# Altium footprint library ebf_mp157 core board s1_20210223_PCB封装库_AD格式.PcbLib: 17 footprints (part 1 of 2)
Each footprint in its own frame and in the unit in brackets; x right, y up, seen from the top. Pads: shape width x height; smd on the part's side, far side on the other; paste and mask are expansions set on the pad; w line width, h text height; cw(c..) or ccw(c..) is an arc to the next point about the centre after c.
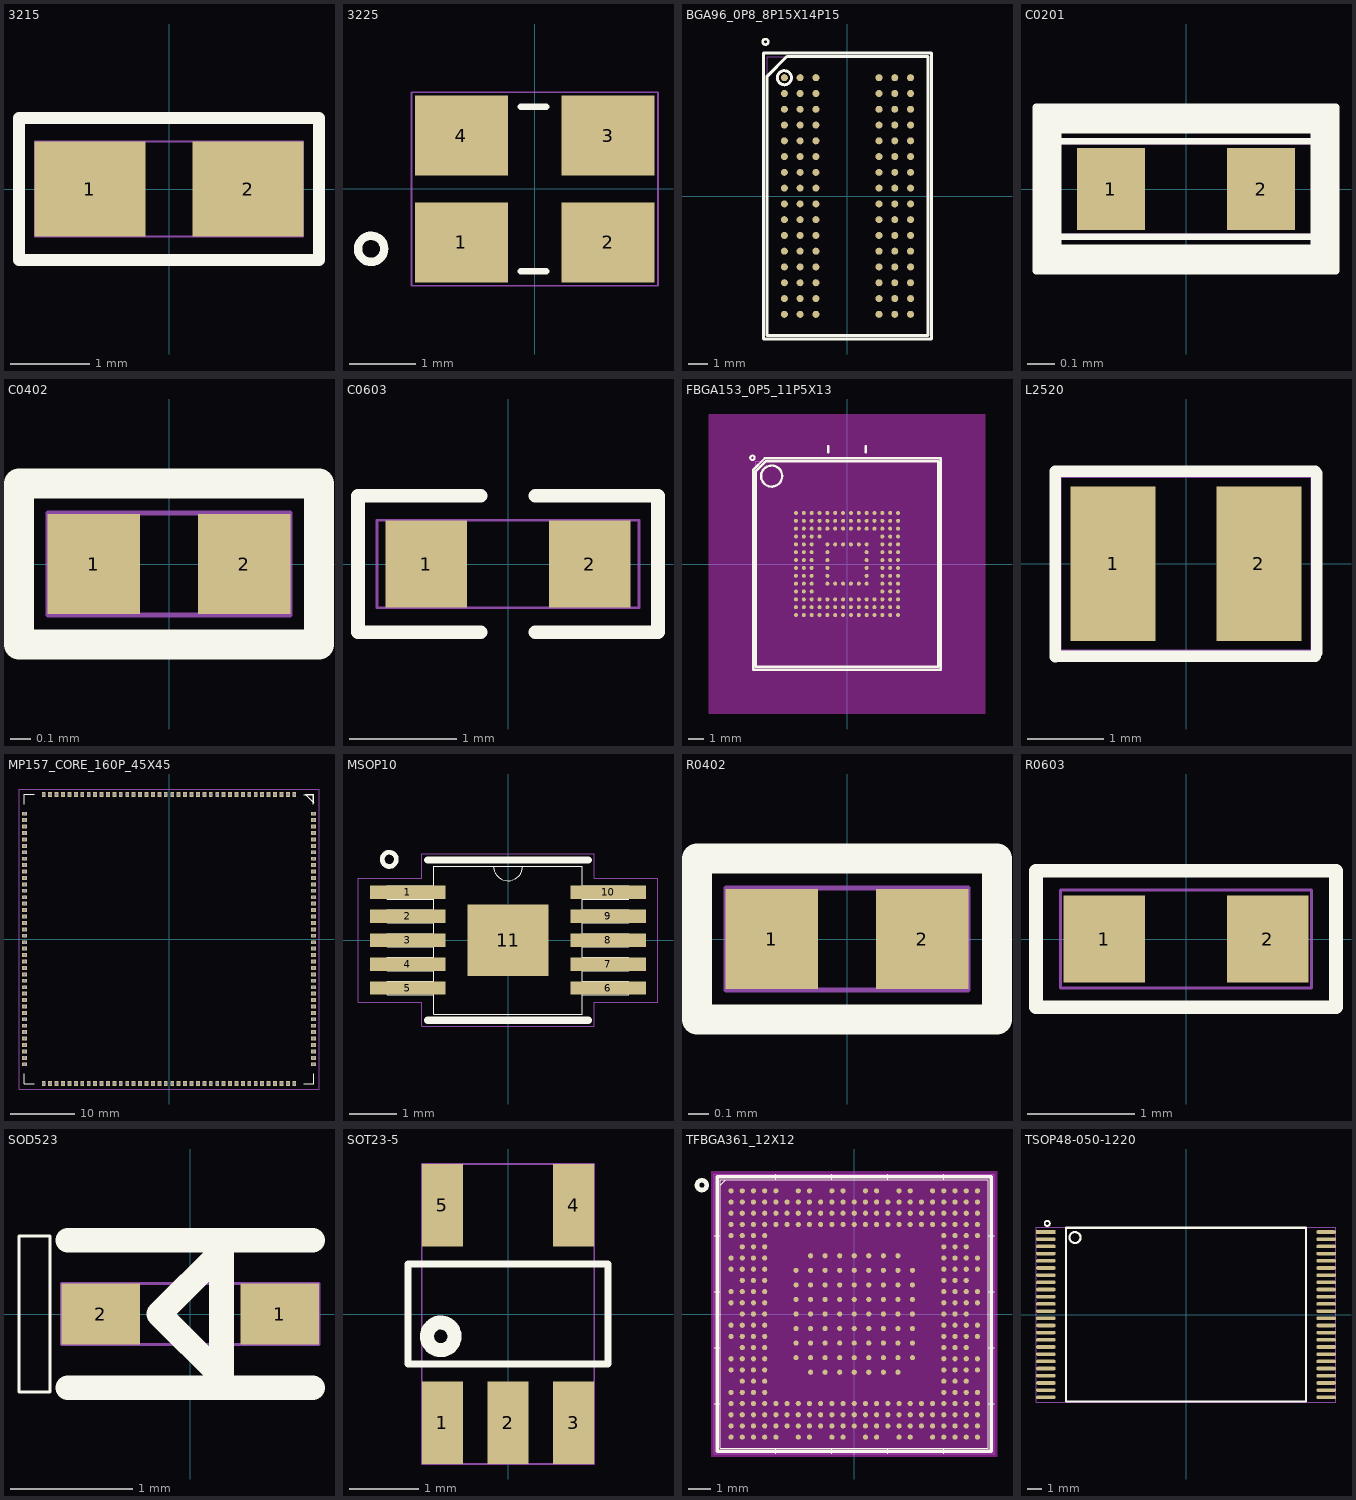
[diagram p0: the footprints below, top view; thin cyan lines are the x and y axes]

## 3215 [mil]
pads (2):
  rect 55.12x47.24 smd mask+1.97: 1(-39.4,0) 2(39.4,0)
Top Overlay:
  lines w5.9: -74.8,-35.4 -74.8,35.4 74.8,35.4 74.8,-35.4 -74.8,-35.4
Top Assembly:
  text "Y2" at -38.92,-25 h50
Mechanical 14:
  lines w1: -66.9,-23.6 -66.9,23.6 66.9,23.6 66.9,-23.6 -66.9,-23.6

## 3225 [mil]
pads (4):
  rect 55.12x47.24 smd mask+1.97: 1(-43.3,-31.5) 2(43.31,-31.5) 3(43.31,31.49) 4(-43.3,31.49)
Top Overlay:
  circle w5: c-96.68,-35.37 r7.74
  lines w3.94: -8.3,-48.51 6.7,-48.51 ; -8.3,48.51 6.7,48.51
Top Assembly:
  text "Y1" at 28.21,25 h50
Mechanical 14:
  lines w1: -72.83,-57.09 72.84,-57.09 72.84,57.08 -72.83,57.08 -72.83,-57.09

## BGA96_0P8_8P15X14P15 [mil]
pads (96):
  round 14 smd mask+2: A1(-125.98,236.22) A2(-94.49,236.22) A3(-62.99,236.22) A7(62.99,236.22) A8(94.49,236.22) A9(125.98,236.22) B1(-125.98,204.72) B2(-94.49,204.72) B3(-62.99,204.72) B7(62.99,204.72) B8(94.49,204.72) B9(125.98,204.72) C1(-125.98,173.23) C2(-94.49,173.23) C3(-62.99,173.23) C7(62.99,173.23) C8(94.49,173.23) C9(125.98,173.23) D1(-125.98,141.73) D2(-94.49,141.73) D3(-62.99,141.73) D7(62.99,141.73) D8(94.49,141.73) D9(125.98,141.73) E1(-125.98,110.24) E2(-94.49,110.24) E3(-62.99,110.24) E7(62.99,110.24) E8(94.49,110.24) E9(125.98,110.24) F1(-125.98,78.74) F2(-94.49,78.74) F3(-62.99,78.74) F7(62.99,78.74) F8(94.49,78.74) F9(125.98,78.74) G1(-125.98,47.24) G2(-94.49,47.24) G3(-62.99,47.24) G7(62.99,47.24) G8(94.49,47.24) G9(125.98,47.24) H1(-125.98,15.75) H2(-94.49,15.75) H3(-62.99,15.75) H7(62.99,15.75) H8(94.49,15.75) H9(125.98,15.75) J1(-125.98,-15.75) J2(-94.49,-15.75) J3(-62.99,-15.75) J7(62.99,-15.75) J8(94.49,-15.75) J9(125.98,-15.75) K1(-125.98,-47.24) K2(-94.49,-47.24) K3(-62.99,-47.24) K7(62.99,-47.24) K8(94.49,-47.24) K9(125.98,-47.24) L1(-125.98,-78.74) L2(-94.49,-78.74) L3(-62.99,-78.74) L7(62.99,-78.74) L8(94.49,-78.74) L9(125.98,-78.74) M1(-125.98,-110.24) M2(-94.49,-110.24) M3(-62.99,-110.24) M7(62.99,-110.24) M8(94.49,-110.24) M9(125.98,-110.24) N1(-125.98,-141.73) N2(-94.49,-141.73) N3(-62.99,-141.73) N7(62.99,-141.73) N8(94.49,-141.73) N9(125.98,-141.73) P1(-125.98,-173.23) P2(-94.49,-173.23) P3(-62.99,-173.23) P7(62.99,-173.23) P8(94.49,-173.23) P9(125.98,-173.23) R1(-125.98,-204.72) R2(-94.49,-204.72) R3(-62.99,-204.72) R7(62.99,-204.72) R8(94.49,-204.72) R9(125.98,-204.72) T1(-125.98,-236.22) T2(-94.49,-236.22) T3(-62.99,-236.22) T7(62.99,-236.22) T8(94.49,-236.22) T9(125.98,-236.22)
Top Overlay:
  circle w5: c-163.68,307.97 r5.57
  circle w6: c-125.98,236.22 r14.08
  lines w6: -167.43,-285.55 -167.43,246.18 -167.43,285.54 -128.07,285.54 167.43,285.54 167.43,-285.54 -167.43,-285.54 ; -160.43,-278.54 160.43,-278.54 160.43,278.54 -121.06,278.54 -160.43,239.17 -160.43,-278.54
Top Assembly:
  text "U9" at 39.04,25 h50
Mechanical 14:
  lines w1: -160.43,-278.54 160.43,-278.54 160.43,278.54 -160.43,278.54 -160.43,-278.54

## C0201 [mm]
pads (2):
  rect 0.25x0.3 smd mask+0.05: 1(-0.275,0) 2(0.275,0)
Top Overlay:
  lines w0.025: -0.55,-0.3 -0.55,0.3 0.55,0.3 0.55,-0.3 -0.55,-0.3 ; -0.475,-0.175 0.475,-0.175 0.475,0.175 -0.475,0.175 -0.475,-0.175
  lines w0.102: -0.508,-0.254 -0.508,0.254 0.508,0.254 0.508,-0.254 -0.508,-0.254
Top Assembly:
  text "C9" at 1.025,0.635 h1.27
Mechanical 14:
  lines w0.025: -0.475,-0.175 0.475,-0.175 0.475,0.175 -0.475,0.175 -0.475,-0.175

## C0402 [mm]
pads (2):
  rect 0.46x0.5 smd mask+0.05: 1(-0.376,0) 2(0.376,0)
Top Overlay:
  lines w0.15: -0.749,-0.401 0.749,-0.401 0.749,0.401 -0.749,0.401 -0.749,-0.401
Top Assembly:
  text "C99" at 1.59,0.635 h1.27
Mechanical 14:
  lines w0.025: -0.604,-0.254 0.604,-0.254 0.604,0.254 -0.604,0.254 -0.604,-0.254

## C0603 [mil]
pads (2):
  rect 30x32 smd mask+2.5: 1(-30,0) 2(30,0)
Top Overlay:
  lines w5: -10,-25 -55,-25 -55,25 -10,25 ; 10,-25 55,-25 55,25 10,25
Top Assembly:
  text "C95" at -63.8,-25 h50
Mechanical 14:
  lines w1: -48,-16 -48,16 48,16 48,-16 -48,-16

## FBGA153_0P5_11P5X13 [mil]
pads (153):
  round 10 smd mask+1: A1(-127.95,127.95) A2(-108.27,127.95) A3(-88.58,127.95) A4(-68.9,127.95) A5(-49.21,127.95) A6(-29.53,127.95) A7(-9.84,127.95) A8(9.84,127.95) A9(29.53,127.95) A10(49.21,127.95) A11(68.9,127.95) A12(88.58,127.95) A13(108.27,127.95) A14(127.95,127.95) B1(-127.95,108.27) B2(-108.27,108.27) B3(-88.58,108.27) B4(-68.9,108.27) B5(-49.21,108.27) B6(-29.53,108.27) B7(-9.84,108.27) B8(9.84,108.27) B9(29.53,108.27) B10(49.21,108.27) B11(68.9,108.27) B12(88.58,108.27) B13(108.27,108.27) B14(127.95,108.27) C1(-127.95,88.58) C2(-108.27,88.58) C3(-88.58,88.58) C4(-68.9,88.58) C5(-49.21,88.58) C6(-29.53,88.58) C7(-9.84,88.58) C8(9.84,88.58) C9(29.53,88.58) C10(49.21,88.58) C11(68.9,88.58) C12(88.58,88.58) C13(108.27,88.58) C14(127.95,88.58) D1(-127.95,68.9) D2(-108.27,68.9) D3(-88.58,68.9) D4(-68.9,68.9) D12(88.58,68.9) D13(108.27,68.9) D14(127.95,68.9) E1(-127.95,49.21) E2(-108.27,49.21) E3(-88.58,49.21) E5(-49.21,49.21) E6(-29.53,49.21) E7(-9.84,49.21) E8(9.84,49.21) E9(29.53,49.21) E10(49.21,49.21) E12(88.58,49.21) E13(108.27,49.21) E14(127.95,49.21) F1(-127.95,29.53) F2(-108.27,29.53) F3(-88.58,29.53) F5(-49.21,29.53) F10(49.21,29.53) F12(88.58,29.53) F13(108.27,29.53) F14(127.95,29.53) G1(-127.95,9.84) G2(-108.27,9.84) G3(-88.58,9.84) G5(-49.21,9.84) G10(49.21,9.84) G12(88.58,9.84) G13(108.27,9.84) G14(127.95,9.84) H1(-127.95,-9.84) H2(-108.27,-9.84) H3(-88.58,-9.84) H5(-49.21,-9.84) H10(49.21,-9.84) H12(88.58,-9.84) H13(108.27,-9.84) H14(127.95,-9.84) J1(-127.95,-29.53) J2(-108.27,-29.53) J3(-88.58,-29.53) J5(-49.21,-29.53) J10(49.21,-29.53) J12(88.58,-29.53) J13(108.27,-29.53) J14(127.95,-29.53) K1(-127.95,-49.21) K2(-108.27,-49.21) K3(-88.58,-49.21) K5(-49.21,-49.21) K6(-29.53,-49.21) K7(-9.84,-49.21) K8(9.84,-49.21) K9(29.53,-49.21) K10(49.21,-49.21) K12(88.58,-49.21) K13(108.27,-49.21) K14(127.95,-49.21) L1(-127.95,-68.9) L2(-108.27,-68.9) L3(-88.58,-68.9) L12(88.58,-68.9) L13(108.27,-68.9) L14(127.95,-68.9) M1(-127.95,-88.58) M2(-108.27,-88.58) M3(-88.58,-88.58) M4(-68.9,-88.58) M5(-49.21,-88.58) M6(-29.53,-88.58) M7(-9.84,-88.58) M8(9.84,-88.58) M9(29.53,-88.58) M10(49.21,-88.58) M11(68.9,-88.58) M12(88.58,-88.58) M13(108.27,-88.58) M14(127.95,-88.58) N1(-127.95,-108.27) N2(-108.27,-108.27) N3(-88.58,-108.27) N4(-68.9,-108.27) N5(-49.21,-108.27) N6(-29.53,-108.27) N7(-9.84,-108.27) N8(9.84,-108.27) N9(29.53,-108.27) N10(49.21,-108.27) N11(68.9,-108.27) N12(88.58,-108.27) N13(108.27,-108.27) N14(127.95,-108.27) P1(-127.95,-127.95) P2(-108.27,-127.95) P3(-88.58,-127.95) P4(-68.9,-127.95) P5(-49.21,-127.95) P6(-29.53,-127.95) P7(-9.84,-127.95) P8(9.84,-127.95) P9(29.53,-127.95) P10(49.21,-127.95) P11(68.9,-127.95) P12(88.58,-127.95) P13(108.27,-127.95) P14(127.95,-127.95)
Top Layer keep-out:
  region: -346.46,-375.98 -346.46,375.98 346.46,375.98 346.46,-375.98
Top Overlay:
  circle w5: c-237,266 r5.57
  circle w6: c-188.98,220.47 r26.41
  lines w6: -235.35,-264.87 -235.35,235.77 -206.24,264.87 235.35,264.87 235.35,-264.87 -235.35,-264.87 ; -228.35,-257.87 -228.35,232.87 -203.35,257.87 228.35,257.87 228.35,-257.87 -228.35,-257.87 ; -47.24,279.53 -47.24,295.28 -47.24,279.53 ; 47.24,279.53 47.24,295.28 47.24,279.53
Bottom Overlay:
  lines w6: -47.24,279.53 -47.24,295.28 ; 47.24,279.53 47.24,295.28
Top Assembly:
  text "U11" at 47.85,25 h50
Mechanical 14:
  lines w1: -228.35,-257.87 228.35,-257.87 228.35,257.87 -228.35,257.87 -228.35,-257.87

## L2520 [mil]
pads (2):
  rect 44x80 smd mask+2: 1(-37.75,0) 2(37.75,0)
Top Overlay:
  lines w6: -67.68,47.92 67.09,47.92 ; -67.67,-48.15 -67.67,48.03 ; -65.71,-47.92 67.09,-47.92 ; 67.67,-46.06 67.67,46.97
Top Assembly:
  text "L2" at 33.68,25 h50
Mechanical 14:
  lines w1: -65,-45 -65,45 65,45 65,-45 -65,-45

## MP157_CORE_160P_45X45 [mil]
pads (160):
  rect 23.62x31.5 / inner rect 23.62x31.5 / far side rect 23.62x78.74 hole 19.69 mask+1.97: 1(767.72,885.83) 2(728.35,885.83) 3(688.98,885.83) 4(649.61,885.83) 5(610.24,885.83) 6(570.87,885.83) 7(531.5,885.83) 8(492.13,885.83) 9(452.76,885.83) 10(413.39,885.83) 11(374.02,885.83) 12(334.65,885.83) 13(295.28,885.83) 14(255.91,885.83) 15(216.53,885.83) 16(177.16,885.83) 17(137.79,885.83) 18(98.42,885.83) 19(59.05,885.83) 20(19.68,885.83) 21(-19.68,885.83) 22(-59.05,885.83) 23(-98.42,885.83) 24(-137.79,885.83) 25(-177.16,885.83) 26(-216.53,885.83) 27(-255.91,885.83) 28(-295.28,885.83) 29(-334.65,885.83) 30(-374.02,885.83) 31(-413.39,885.83) 32(-452.76,885.83) 33(-492.13,885.83) 34(-531.5,885.83) 35(-570.87,885.83) 36(-610.24,885.83) 37(-649.61,885.83) 38(-688.98,885.83) 39(-728.35,885.83) 40(-767.72,885.83) 81(-767.72,-885.83) 82(-728.35,-885.83) 83(-688.98,-885.83) 84(-649.61,-885.83) 85(-610.24,-885.83) 86(-570.87,-885.83) 87(-531.5,-885.83) 88(-492.13,-885.83) 89(-452.76,-885.83) 90(-413.39,-885.83) 91(-374.02,-885.83) 92(-334.65,-885.83) 93(-295.28,-885.83) 94(-255.91,-885.83) 95(-216.53,-885.83) 96(-177.16,-885.83) 97(-137.79,-885.83) 98(-98.42,-885.83) 99(-59.05,-885.83) 100(-19.68,-885.83) 101(19.68,-885.83) 102(59.05,-885.83) 103(98.42,-885.83) 104(137.79,-885.83) 105(177.16,-885.83) 106(216.53,-885.83) 107(255.91,-885.83) 108(295.28,-885.83) 109(334.65,-885.83) 110(374.02,-885.83) 111(413.39,-885.83) 112(452.76,-885.83) 113(492.13,-885.83) 114(531.5,-885.83) 115(570.87,-885.83) 116(610.24,-885.83) 117(649.61,-885.83) 118(688.98,-885.83) 119(728.35,-885.83) 120(767.72,-885.83)
  rect 31.5x23.62 / inner rect 31.5x23.62 / far side rect 78.74x23.62 hole 19.69 mask+1.97: 41(-885.83,767.72) 42(-885.83,728.35) 43(-885.83,688.98) 44(-885.83,649.61) 45(-885.83,610.24) 46(-885.83,570.87) 47(-885.83,531.5) 48(-885.83,492.13) 49(-885.83,452.76) 50(-885.83,413.39) 51(-885.83,374.02) 52(-885.83,334.65) 53(-885.83,295.28) 54(-885.83,255.91) 55(-885.83,216.53) 56(-885.83,177.16) 57(-885.83,137.79) 58(-885.83,98.42) 59(-885.83,59.05) 60(-885.83,19.68) 61(-885.83,-19.68) 62(-885.83,-59.05) 63(-885.83,-98.42) 64(-885.83,-137.79) 65(-885.83,-177.16) 66(-885.83,-216.53) 67(-885.83,-255.91) 68(-885.83,-295.28) 69(-885.83,-334.65) 70(-885.83,-374.02) 71(-885.83,-413.39) 72(-885.83,-452.76) 73(-885.83,-492.13) 74(-885.83,-531.5) 75(-885.83,-570.87) 76(-885.83,-610.24) 77(-885.83,-649.61) 78(-885.83,-688.98) 79(-885.83,-728.35) 80(-885.83,-767.72) 121(885.83,-767.72) 122(885.83,-728.35) 123(885.83,-688.98) 124(885.83,-649.61) 125(885.83,-610.24) 126(885.83,-570.87) 127(885.83,-531.5) 128(885.83,-492.13) 129(885.83,-452.76) 130(885.83,-413.39) 131(885.83,-374.02) 132(885.83,-334.65) 133(885.83,-295.28) 134(885.83,-255.91) 135(885.83,-216.53) 136(885.83,-177.16) 137(885.83,-137.79) 138(885.83,-98.42) 139(885.83,-59.05) 140(885.83,-19.68) 141(885.83,19.68) 142(885.83,59.05) 143(885.83,98.42) 144(885.83,137.79) 145(885.83,177.16) 146(885.83,216.53) 147(885.83,255.91) 148(885.83,295.28) 149(885.83,334.65) 150(885.83,374.02) 151(885.83,413.39) 152(885.83,452.76) 153(885.83,492.13) 154(885.83,531.5) 155(885.83,570.87) 156(885.83,610.24) 157(885.83,649.61) 158(885.83,688.98) 159(885.83,728.35) 160(885.83,767.72)
Top Overlay:
  lines w1: 835.83,885.83 885.83,835.83 885.83,885.83 835.83,885.83
  lines w6: -885.83,-885.83 -885.83,-826.57 -885.83,-885.83 ; -885.83,-885.83 -826.77,-885.63 -885.83,-885.83 ; -885.83,885.83 -826.77,885.63 -885.83,885.83 ; -885.83,885.83 -885.83,826.57 -885.83,885.83 ; 883.54,885.28 824.49,885.08 883.54,885.28 ; 883.54,885.28 883.54,826.02 883.54,885.28 ; 885.83,-885.83 885.83,-826.57 885.83,-885.83 ; 885.83,-885.83 826.77,-885.63 885.83,-885.83
Top Assembly:
  text "U7" at -40.23,-25 h50
Mechanical 14:
  lines w1: -919.3,-919.3 919.3,-919.3 919.3,919.3 -919.3,919.3 -919.3,-919.3

## MSOP10 [mil]
pads (11):
  rect 62x11 smd: 1(-82.5,39.37) 2(-82.5,19.68) 3(-82.5,0) 4(-82.5,-19.68) 5(-82.5,-39.37) 6(82.5,-39.37) 7(82.5,-19.68) 8(82.5,0) 9(82.5,19.68) 10(82.5,39.37)
  rect 66.93x59.05 smd mask+1.97: 11(0,0)
Top Overlay:
  circle w3.94: c-97.76,66.59 r5.83
  lines w1: -12,61 ccw(c0,61) 12,60.79 ; -99.5,-44.9 -61,-44.9 -61,-33.9 -99.5,-33.9 -99.5,-44.9 ; -99.5,-25.2 -61,-25.2 -61,-14.2 -99.5,-14.2 -99.5,-25.2 ; -99.5,-5.5 -61,-5.5 -61,5.5 -99.5,5.5 -99.5,-5.5 ; -99.5,14.2 -61,14.2 -61,25.2 -99.5,25.2 -99.5,14.2 ; -99.5,33.9 -61,33.9 -61,44.9 -99.5,44.9 -99.5,33.9 ; -61,-61 -61,61 61,61 61,-61 -61,-61 ; 61,-44.9 99.5,-44.9 99.5,-33.9 61,-33.9 61,-44.9 ; 61,-25.2 99.5,-25.2 99.5,-14.2 61,-14.2 61,-25.2 ; 61,-5.5 99.5,-5.5 99.5,5.5 61,5.5 61,-5.5 ; 61,14.2 99.5,14.2 99.5,25.2 61,25.2 61,14.2 ; 61,33.9 99.5,33.9 99.5,44.9 61,44.9 61,33.9
  lines w6: -66,-66 66,-66 ; -66,66 66,66
Top Assembly:
  text "U10" at -58.56,-25 h50
Mechanical 14:
  lines w1: -123.5,-51.2 -71,-51.2 -71,-71 71,-71 71,-51.2 123.5,-51.2 123.5,51.2 71,51.2 71,71 -71,71 -71,51.2 -123.5,51.2 -123.5,-51.2

## R0402 [mm]
pads (2):
  rect 0.46x0.5 smd mask+0.05: 1(-0.376,0) 2(0.376,0)
Top Overlay:
  lines w0.15: -0.749,-0.401 0.749,-0.401 0.749,0.401 -0.749,0.401 -0.749,-0.401
Top Assembly:
  text "R9" at 0.958,0.635 h1.27
Mechanical 14:
  lines w0.025: -0.604,-0.254 0.604,-0.254 0.604,0.254 -0.604,0.254 -0.604,-0.254

## R0603 [mil]
pads (2):
  rect 30x32 smd mask+2.5: 1(-30,0) 2(30,0)
Top Overlay:
  lines w5: -55,-25 -55,25 55,25 55,-25 -55,-25
Top Assembly:
  text "R3" at 38.92,25 h50
Mechanical 14:
  lines w1: -46,-18 -46,18 46,18 46,-18 -46,-18

## SOD523 [mm]
pads (2):
  rect 0.64x0.5 smd mask+0.05: 1(0.73,0) 2(-0.73,0)
Top Overlay:
  lines w0.025: -1.397,-0.635 -1.143,-0.635 -1.143,0.635 -1.397,0.635 -1.397,-0.635
  lines w0.2: -1,-0.6 1,-0.6 ; -1,0.6 1,0.6
  lines w0.203: -0.254,0 0.254,-0.508 0.254,0.508 -0.254,0
Top Assembly:
  text "D3" at -0.989,-0.635 h1.27
Mechanical 14:
  lines w0.025: -1.05,-0.25 1.05,-0.25 1.05,0.25 -1.05,0.25 -1.05,-0.25

## SOT23-5 [mm]
pads (5):
  rect 0.6x1.2 smd mask+0.05: 1(-0.95,-1.575) 2(0,-1.575) 3(0.95,-1.575) 4(0.95,1.575) 5(-0.95,1.575)
Top Overlay:
  circle w0.203: c-0.975,-0.325 r0.2
  lines w0.102: -1.45,-0.725 1.45,-0.725 1.45,0.475 1.45,0.725 -1.45,0.725 -1.45,0.475 -1.45,-0.725
Top Assembly:
  text "U6" at 0.992,0.635 h1.27
Mechanical 14:
  lines w0.025: -1.25,-2.175 1.25,-2.175 1.25,2.175 -1.25,2.175 -1.25,-2.175

## TFBGA361_12X12 [mm]
pads (361):
  round 0.23 smd mask+0.035: 1A2(-1.95,2.6) 1A3(-1.3,2.6) 1A4(-0.65,2.6) 1A5(0,2.6) 1A6(0.65,2.6) 1A7(1.3,2.6) 1A8(1.95,2.6) 1B1(-2.6,1.95) 1B2(-1.95,1.95) 1B3(-1.3,1.95) 1B4(-0.65,1.95) 1B5(0,1.95) 1B6(0.65,1.95) 1B7(1.3,1.95) 1B8(1.95,1.95) 1B9(2.6,1.95) 1C1(-2.6,1.3) 1C2(-1.95,1.3) 1C3(-1.3,1.3) 1C4(-0.65,1.3) 1C5(0,1.3) 1C6(0.65,1.3) 1C7(1.3,1.3) 1C8(1.95,1.3) 1C9(2.6,1.3) 1D1(-2.6,0.65) 1D2(-1.95,0.65) 1D3(-1.3,0.65) 1D4(-0.65,0.65) 1D5(0,0.65) 1D6(0.65,0.65) 1D7(1.3,0.65) 1D8(1.95,0.65) 1D9(2.6,0.65) 1E1(-2.6,0) 1E2(-1.95,0) 1E3(-1.3,0) 1E4(-0.65,0) 1E5(0,0) 1E6(0.65,0) 1E7(1.3,0) 1E8(1.95,0) 1E9(2.6,0) 1F1(-2.6,-0.65) 1F2(-1.95,-0.65) 1F3(-1.3,-0.65) 1F4(-0.65,-0.65) 1F5(0,-0.65) 1F6(0.65,-0.65) 1F7(1.3,-0.65) 1F8(1.95,-0.65) 1F9(2.6,-0.65) 1G1(-2.6,-1.3) 1G2(-1.95,-1.3) 1G3(-1.3,-1.3) 1G4(-0.65,-1.3) 1G5(0,-1.3) 1G6(0.65,-1.3) 1G7(1.3,-1.3) 1G8(1.95,-1.3) 1G9(2.6,-1.3) 1H1(-2.6,-1.95) 1H2(-1.95,-1.95) 1H3(-1.3,-1.95) 1H4(-0.65,-1.95) 1H5(0,-1.95) 1H6(0.65,-1.95) 1H7(1.3,-1.95) 1H8(1.95,-1.95) 1H9(2.6,-1.95) 1J2(-1.95,-2.6) 1J3(-1.3,-2.6) 1J4(-0.65,-2.6) 1J5(0,-2.6) 1J6(0.65,-2.6) 1J7(1.3,-2.6) 1J8(1.95,-2.6) A1(-5.5,5.5) A2(-5,5.5) A3(-4.5,5.5) A4(-4,5.5) A5(-3.5,5.5) A7(-2.5,5.5) A8(-2,5.5) A10(-1,5.5) A11(-0.5,5.5) A13(0.5,5.5) A14(1,5.5) A16(2,5.5) A17(2.5,5.5) A19(3.5,5.5) A20(4,5.5) A21(4.5,5.5) A22(5,5.5) A23(5.5,5.5) AA1(-5.5,-4.5) AA2(-5,-4.5) AA3(-4.5,-4.5) AA4(-4,-4.5) AA5(-3.5,-4.5) AA6(-3,-4.5) AA7(-2.5,-4.5) AA8(-2,-4.5) AA9(-1.5,-4.5) AA10(-1,-4.5) AA11(-0.5,-4.5) AA12(0,-4.5) AA13(0.5,-4.5) AA14(1,-4.5) AA15(1.5,-4.5) AA16(2,-4.5) AA17(2.5,-4.5) AA18(3,-4.5) AA19(3.5,-4.5) AA20(4,-4.5) AA21(4.5,-4.5) AA22(5,-4.5) AA23(5.5,-4.5) AB1(-5.5,-5) AB2(-5,-5) AB3(-4.5,-5) AB4(-4,-5) AB5(-3.5,-5) AB6(-3,-5) AB7(-2.5,-5) AB8(-2,-5) AB9(-1.5,-5) AB10(-1,-5) AB11(-0.5,-5) AB12(0,-5) AB13(0.5,-5) AB14(1,-5) AB15(1.5,-5) AB16(2,-5) AB17(2.5,-5) AB18(3,-5) AB19(3.5,-5) AB20(4,-5) AB21(4.5,-5) AB22(5,-5) AB23(5.5,-5) AC1(-5.5,-5.5) AC2(-5,-5.5) AC3(-4.5,-5.5) AC4(-4,-5.5) AC5(-3.5,-5.5) AC7(-2.5,-5.5) AC8(-2,-5.5) AC10(-1,-5.5) AC11(-0.5,-5.5) AC13(0.5,-5.5) AC14(1,-5.5) AC16(2,-5.5) AC17(2.5,-5.5) AC19(3.5,-5.5) AC20(4,-5.5) AC21(4.5,-5.5) AC22(5,-5.5) AC23(5.5,-5.5) B1(-5.5,5) B2(-5,5) B3(-4.5,5) B4(-4,5) B5(-3.5,5) B6(-3,5) B7(-2.5,5) B8(-2,5) B9(-1.5,5) B10(-1,5) B11(-0.5,5) B12(0,5) B13(0.5,5) B14(1,5) B15(1.5,5) B16(2,5) B17(2.5,5) B18(3,5) B19(3.5,5) B20(4,5) B21(4.5,5) B22(5,5) B23(5.5,5) C1(-5.5,4.5) C2(-5,4.5) C3(-4.5,4.5) C4(-4,4.5) C5(-3.5,4.5) C6(-3,4.5) C7(-2.5,4.5) C8(-2,4.5) C9(-1.5,4.5) C10(-1,4.5) C11(-0.5,4.5) C12(0,4.5) C13(0.5,4.5) C14(1,4.5) C15(1.5,4.5) C16(2,4.5) C17(2.5,4.5) C18(3,4.5) C19(3.5,4.5) C20(4,4.5) C21(4.5,4.5) C22(5,4.5) C23(5.5,4.5) D1(-5.5,4) D2(-5,4) D3(-4.5,4) D4(-4,4) D5(-3.5,4) D6(-3,4) D7(-2.5,4) D8(-2,4) D9(-1.5,4) D10(-1,4) D11(-0.5,4) D12(0,4) D13(0.5,4) D14(1,4) D15(1.5,4) D16(2,4) D17(2.5,4) D18(3,4) D19(3.5,4) D20(4,4) D21(4.5,4) D22(5,4) D23(5.5,4) E1(-5.5,3.5) E2(-5,3.5) E3(-4.5,3.5) E4(-4,3.5) E20(4,3.5) E21(4.5,3.5) E22(5,3.5) E23(5.5,3.5) F2(-5,3) F3(-4.5,3) F4(-4,3) F20(4,3) F21(4.5,3) F22(5,3) G1(-5.5,2.5) G2(-5,2.5) G3(-4.5,2.5) G4(-4,2.5) G20(4,2.5) G21(4.5,2.5) G22(5,2.5) G23(5.5,2.5) H1(-5.5,2) H2(-5,2) H3(-4.5,2) H4(-4,2) H20(4,2) H21(4.5,2) H22(5,2) H23(5.5,2) J2(-5,1.5) J3(-4.5,1.5) J4(-4,1.5) J20(4,1.5) J21(4.5,1.5) J22(5,1.5) K1(-5.5,1) K2(-5,1) K3(-4.5,1) K4(-4,1) K20(4,1) K21(4.5,1) K22(5,1) K23(5.5,1) L1(-5.5,0.5) L2(-5,0.5) L3(-4.5,0.5) L4(-4,0.5) L20(4,0.5) L21(4.5,0.5) L22(5,0.5) L23(5.5,0.5) M2(-5,0) M3(-4.5,0) M4(-4,0) M20(4,0) M21(4.5,0) M22(5,0) N1(-5.5,-0.5) N2(-5,-0.5) N3(-4.5,-0.5) N4(-4,-0.5) N20(4,-0.5) N21(4.5,-0.5) N22(5,-0.5) N23(5.5,-0.5) P1(-5.5,-1) P2(-5,-1) P3(-4.5,-1) P4(-4,-1) P20(4,-1) P21(4.5,-1) P22(5,-1) P23(5.5,-1) R2(-5,-1.5) R3(-4.5,-1.5) R4(-4,-1.5) R20(4,-1.5) R21(4.5,-1.5) R22(5,-1.5) T1(-5.5,-2) T2(-5,-2) T3(-4.5,-2) T4(-4,-2) T20(4,-2) T21(4.5,-2) T22(5,-2) T23(5.5,-2) U1(-5.5,-2.5) U2(-5,-2.5) U3(-4.5,-2.5) U4(-4,-2.5) U20(4,-2.5) U21(4.5,-2.5) U22(5,-2.5) U23(5.5,-2.5) V2(-5,-3) V3(-4.5,-3) V4(-4,-3) V20(4,-3) V21(4.5,-3) V22(5,-3) W1(-5.5,-3.5) W2(-5,-3.5) W3(-4.5,-3.5) W4(-4,-3.5) W20(4,-3.5) W21(4.5,-3.5) W22(5,-3.5) W23(5.5,-3.5) Y1(-5.5,-4) Y2(-5,-4) Y3(-4.5,-4) Y4(-4,-4) Y5(-3.5,-4) Y6(-3,-4) Y7(-2.5,-4) Y8(-2,-4) Y9(-1.5,-4) Y10(-1,-4) Y11(-0.5,-4) Y12(0,-4) Y13(0.5,-4) Y14(1,-4) Y15(1.5,-4) Y16(2,-4) Y17(2.5,-4) Y18(3,-4) Y19(3.5,-4) Y20(4,-4) Y21(4.5,-4) Y22(5,-4) Y23(5.5,-4)
Top Layer keep-out:
  region: -6.375,-6.375 -6.375,6.375 6.375,6.375 6.375,-6.375
Top Overlay:
  circle w0.203: c-6.805,5.753 r0.218
  lines w0.025: -6.248,-4 -5.994,-4 ; -6.248,-1.501 -5.994,-1.501 ; -6.248,1.001 -5.994,1.001 ; -6.248,3.5 -5.994,3.5 ; -5.994,5.746 -5.746,5.994 ; -3.5,-6.248 -3.5,-5.994 ; -3.5,5.994 -3.5,6.248 ; -1.001,-6.248 -1.001,-5.994 ; -1.001,5.994 -1.001,6.248 ; 1.501,-6.248 1.501,-5.994 ; 1.501,5.994 1.501,6.248 ; 4,-6.248 4,-5.994 ; 4,5.994 4,6.248 ; 5.994,-4 6.248,-4 ; 5.994,-1.501 6.248,-1.501 ; 5.994,1.001 6.248,1.001 ; 5.994,3.5 6.248,3.5 ; -5.994,-5.994 -5.994,5.994 5.994,5.994 5.994,-5.994 -5.994,-5.994
  lines w0.152: -6.121,-6.121 -6.121,6.121 6.121,6.121 6.121,-6.121 -6.121,-6.121
Top Assembly:
  text "U2" at 1.022,0.635 h1.27
Mechanical 14:
  lines w0.025: -6.248,-6.248 6.248,-6.248 6.248,6.248 -6.248,6.248 -6.248,-6.248

## TSOP48-050-1220 [mil]
pads (48):
  rect 54x10 smd mask+2: 1(-383.9,226.4)
  oval 54x10 smd mask+2: 2(-383.9,206.7) 3(-383.9,187) 4(-383.9,167.3) 5(-383.9,147.6) 6(-383.9,128) 7(-383.9,108.3) 8(-383.9,88.6) 9(-383.9,68.9) 10(-383.9,49.2) 11(-383.9,29.5) 12(-383.9,9.8) 13(-383.9,-9.8) 14(-383.9,-29.5) 15(-383.9,-49.2) 16(-383.9,-68.9) 17(-383.9,-88.6) 18(-383.9,-108.3) 19(-383.9,-128) 20(-383.9,-147.6) 21(-383.9,-167.3) 22(-383.9,-187) 23(-383.9,-206.7) 24(-383.9,-226.4) 25(383.9,-226.4) 26(383.9,-206.7) 27(383.9,-187) 28(383.9,-167.3) 29(383.9,-147.6) 30(383.9,-128) 31(383.9,-108.3) 32(383.9,-88.6) 33(383.9,-68.9) 34(383.9,-49.2) 35(383.9,-29.5) 36(383.9,-9.8) 37(383.9,9.8) 38(383.9,29.5) 39(383.9,49.2) 40(383.9,68.9) 41(383.9,88.6) 42(383.9,108.3) 43(383.9,128) 44(383.9,147.6) 45(383.9,167.3) 46(383.9,187) 47(383.9,206.7) 48(383.9,226.4)
Top Overlay:
  circle w6: c-303.86,211.38 r14.96
  circle w5: c-380,250 r7.1
  lines w6: -328.5,-238.2 328.7,-238.2 328.7,238.2 -328.5,238.2 -328.5,-238.2
Top Assembly:
  text "U12" at -58.56,-25 h50
Mechanical 14:
  lines w1: -410,-240 -410,240 410,240 410,-240 -410,-240